# Altium schematic symbol library IND,3.3uH,18A,Wirewound,SMD.Schlib: 1 symbol
Pins are listed as number, name and electrical type; pins without a type are passive.

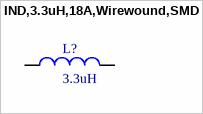
[diagram p0: symbol IND,3.3uH,18A,Wirewound,SMD]

## IND,3.3uH,18A,Wirewound,SMD
designator L?, comment 3.3uH
FIXED IND 3.3UH 18A 6.8 MOHM SMD
pins: 1, 2